# EAGLE library part HCPL-2232 (library HCPL-2232)
Check availability <https://pricing.snapeda.com/parts/HCPL-2232/Broadcom%20Limited/view-part?ref=eda>
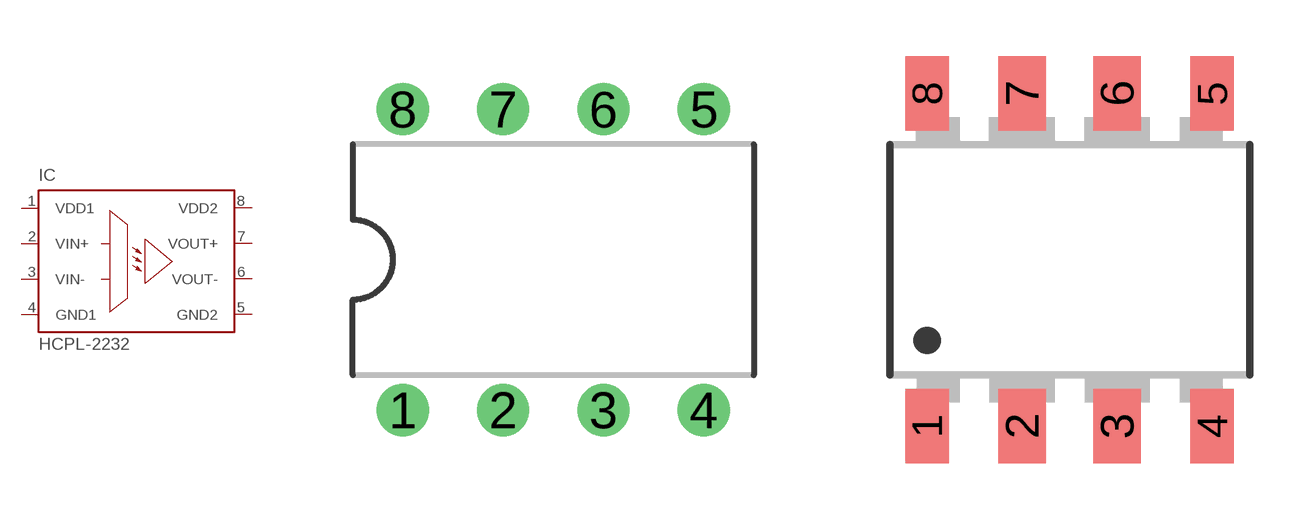
[diagram p0: symbol with the pads of DIL08; footprints DIL08, DIP8]

Designator prefix IC

## HCPL-2232 (Availability: In Stock; Check_prices: https://www.snapeda.com/parts/HCPL-2232/Broadcom/view-part/?ref=eda; Description: Logic Output Optoisolator 5MBd Push-Pull, Totem Pole 3750Vrms 2 Channel 10kV/µs CMTI 8-DIP Gull Wing; MF: Broadcom Limited; MP: HCPL-2232; Package: DIP-8 Broadcom / Avago; Price: None; SnapEDA_Link: https://www.snapeda.com/parts/HCPL-2232/Broadcom/view-part/?ref=snap)  [DIL08]
1  VDD1  pwr
2  VIN+  pwr
3  VIN-  pwr
4  GND1  pwr
5  GND2  pwr
6  VOUT-  pwr
7  VOUT+  pwr
8  VDD2  pwr

## HCPL-2232A (Availability: In Stock; Check_prices: https://www.snapeda.com/parts/HCPL-2232/Broadcom/view-part/?ref=eda; Description: Logic Output Optoisolator 5MBd Push-Pull, Totem Pole 3750Vrms 2 Channel 10kV/µs CMTI 8-DIP Gull Wing; MF: Broadcom Limited; MP: HCPL-2232; Package: DIP-8 Broadcom / Avago; Price: None; SnapEDA_Link: https://www.snapeda.com/parts/HCPL-2232/Broadcom/view-part/?ref=snap)  [DIP8]
Pads as for DIL08

## Footprint DIL08 (pad centres in mm)
Dual In Line Package
drill 0.813 pad 1.3: 1 -3.81,-3.81; 2 -1.27,-3.81; 3 1.27,-3.81; 4 3.81,-3.81; 5 3.81,3.81; 6 1.27,3.81; 7 -1.27,3.81; 8 -3.81,3.81

## Footprint DIP8 (pad centres in mm)
SMD DIL08 Gull Wing Surface Mount Optioon 300 Source: http://www.avagotech.com/docs/AV02-0410EN
smd 1.16 x 2: 1 -3.81,-4.45; 4 3.81,-4.45; 5 3.81,4.45; 8 -3.81,4.45
smd 1.27 x 2: 2 -1.27,-4.45; 3 1.27,-4.45; 6 1.27,4.45; 7 -1.27,4.45